# Altium integrated library Linear Technology Power Management PMIC Multifunction.IntLib: 360 symbols (part 24 of 42)
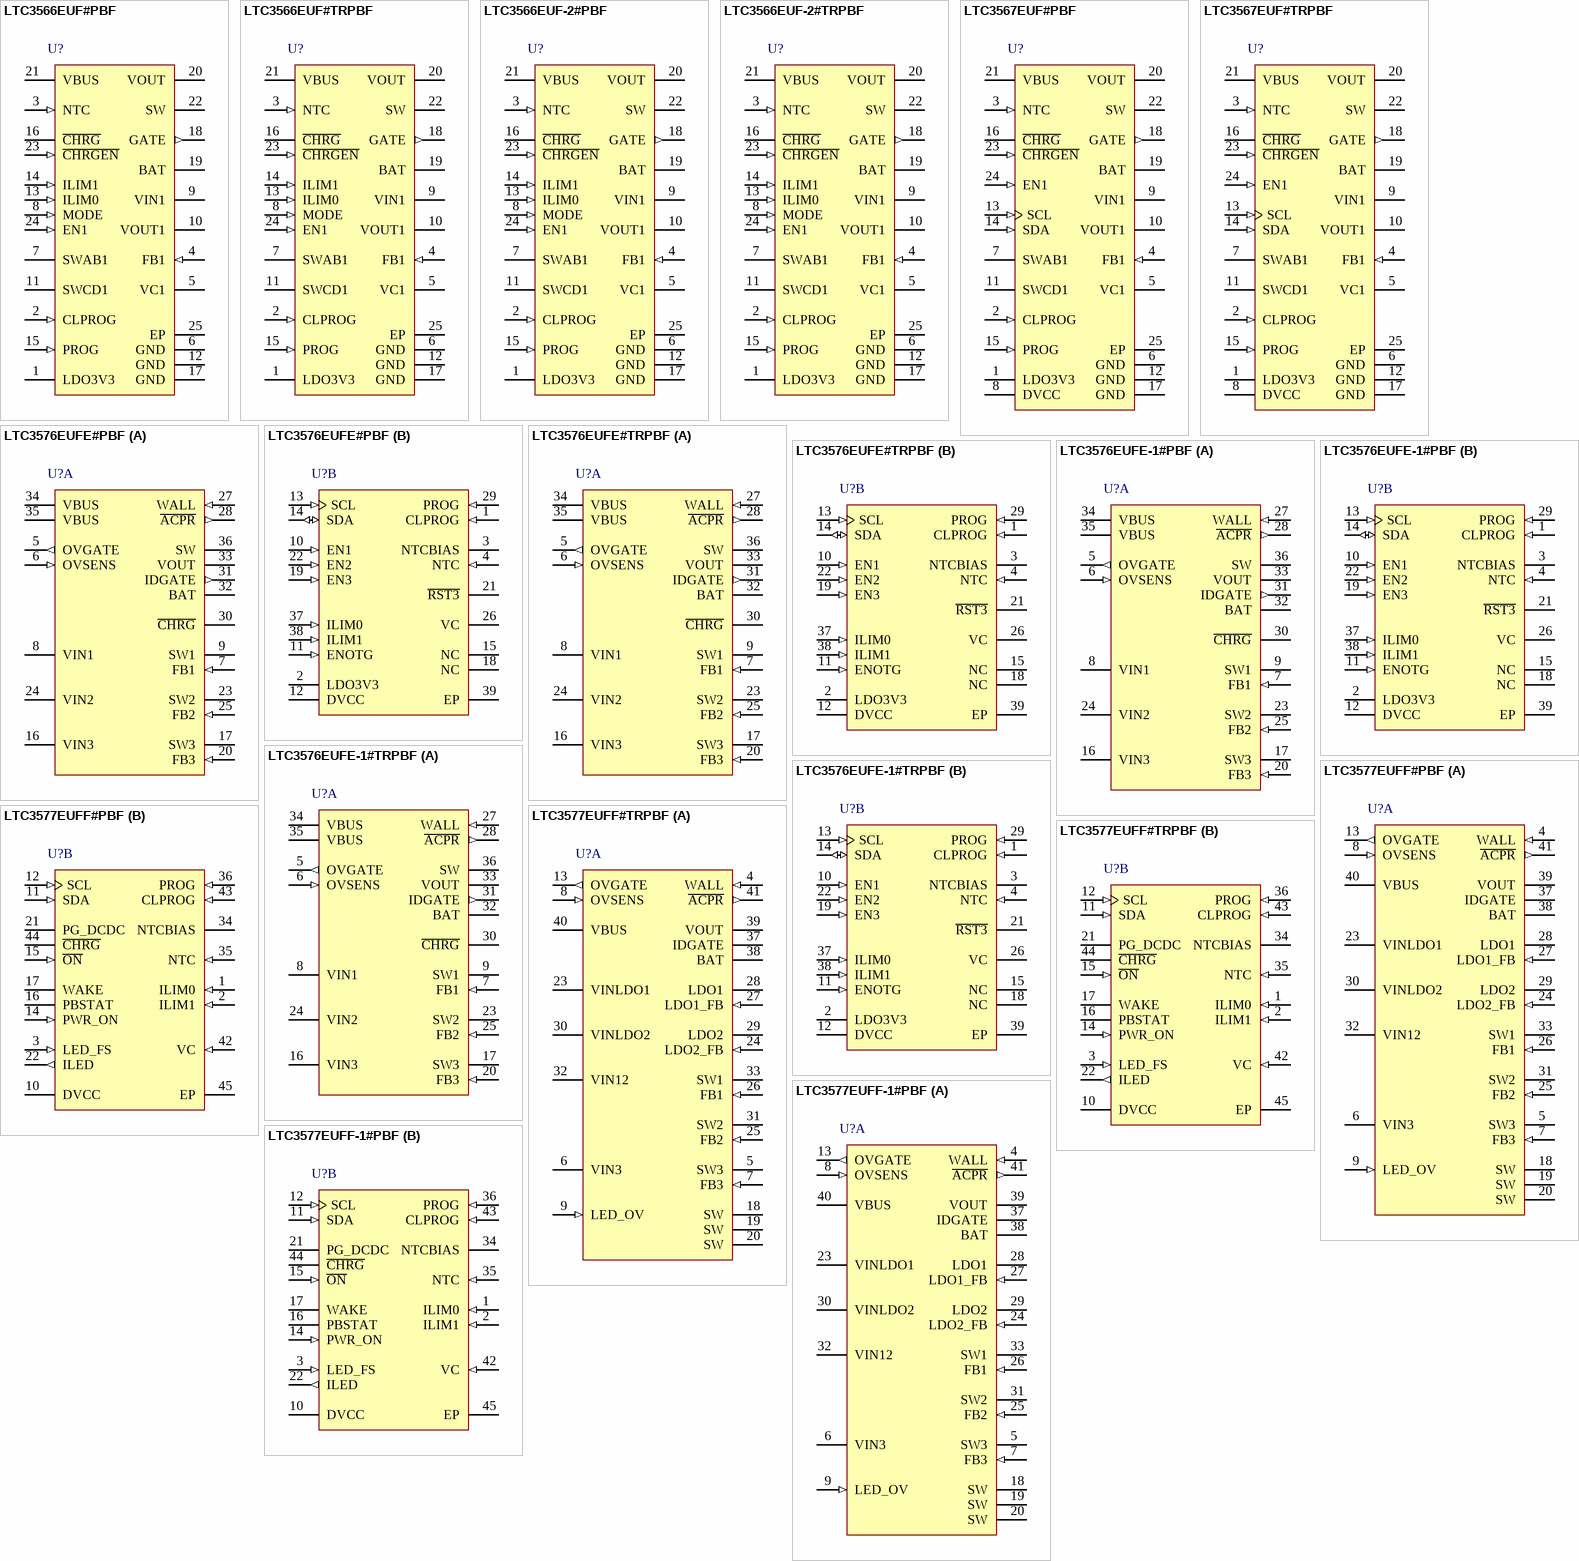
[diagram p41: symbols LTC3566EUF#PBF to LTC3577EUFF-1#PBF]

## LTC3566EUF#TRPBF
designator U?
High Efficiency USB Power Manager Plus 1 A Buck-Boost Converter, 4.35 to 5.5 V Vin, 24-pin QFN (UF-24), -40 to 85 degC, Pb-Free, Tape and Reel; Manufacturer: Linear Technology; PartNumber: LTC3566EUF#TRPBF; Number of Cells: 1; Vin Max(V): 5.5; Vin Min(V): 4.35; DatasheetVersion: Rev. B; PackageVersion: Rev. B, 02/2012; PackageReference: UF24; PackageDescription: 24-Pin Plastic QFN, Body 4 x 4 mm, Pitch 0.5 mm; Supplier 1: Digi-Key; Supplier Part Number 1: LTC3566EUF#TRPBF-ND; Number of Outputs: 1; Packing: Tape and Reel; RoHS: TRUE; Mounting Technology: Surface Mount; Code_JEDEC: MO-220; ComponentLink1Description: Manufacturer URL; ComponentLink1URL: http://www.linear.com/; ComponentLink2Description: Datasheet; ComponentLink2URL: http://cds.linear.com/docs/en/datasheet/3566fb.pdf; ComponentLink3Description: Package Specification; ComponentLink3URL: http://cds.linear.com/docs/en/packaging/%28UF24%29%20QFN%2005-08-1697%20Rev%20B.pdf
footprint LT-UF-24_N (QFN, 24-Leads, Body 4.1x4.1mm, Pitch 0.5mm, Thermal Pad 2.45x2.45mm, IPC Medium Density)
footprint LT-UF-24_L (QFN, 24-Leads, Body 4.1x4.1mm, Pitch 0.5mm, Thermal Pad 2.45x2.45mm, IPC High Density)
footprint LT-UF-24_M (QFN, 24-Leads, Body 4.1x4.1mm, Pitch 0.5mm, Thermal Pad 2.45x2.45mm, IPC Low Density)
pins: 1 LDO3V3 (power) "3.3V LDO Output Pin. This pin provides a regulated, always-on, 3.3V supply voltage. LDO3V3 gets its power from VOUT. It may be used for light loads such as a watchdog microprocessor or real time clock. A 1uF capacitor is (See Datasheet)", 2 CLPROG (in) "USB Current Limit Program and Monitor Pin. A resistor from CLPROG to ground determines the upper limit of the current drawn from the VBUS pin. A fraction of the VBUS current is sent to the CLPROG pin when the synchronous (See Datasheet)", 3 NTC (in) "Input to the Thermistor Monitoring Circuits. The NTC pin connects to a battery’s thermistor to determine if the battery is too hot or too cold to charge. If the battery’s temperature is out of range, charging is pau(See Datasheet)", 4 FB1 (in) "Feedback Input for the (Buck-Boost) Switching Regulator. When the regulator’s control loop is complete, this pin servos to a fixed voltage of 0.8V.", 5 VC1 "Output of the Error Amplifier and Voltage Compensation Node for the (Buck-Boost) Switching Regulator. External Type I or Type III compensation (to FB1) connects to this pin. See Applications Information section for selecting (See Datasheet)", 6 GND (power) "Power GND pins for the buck-boost.", 7 SWAB1 "Switch Node for the (Buck-Boost) Switching Regulator. Connected to internal power switches A and B. External inductor connects between this node and SWCD1.", 8 MODE (in) "Logic Input. Mode enables Burst Mode functionality for the buck-boost switching regulator when pin is set high. Has a 1.6uA internal pull-down current source.", 9 VIN1 (power) "Power Input for the (Buck-Boost) Switching Regulator. This pin will generally be connected to VOUT (Pin 20). A 1uF(min) MLCC capacitor is recommended on this pin.", 10 VOUT1 (power) "Regulated Output Voltage for the (Buck-Boost) Switching Regulator.", 11 SWCD1 "Switch Node for the (Buck-Boost) Switching Regulator. Connected to internal power switches C and D. External inductor connects between this node and SWAB1.", 12 GND (power) "Power GND pins for the buck-boost.", 13 ILIM0 (in) "Logic Input. Control pin for ILIM0 bit of the current limit of the PowerPath switching regulator. See Table 2. Active high. Has a 1.6uA internal pull-down current source.", 14 ILIM1 (in) "Logic Input. Control pin for ILIM1 bit of the current limit of the PowerPath switching regulator. See Table 2. Active high. Has a 1.6uA internal pull-down current source.", 15 PROG (in) "Charge Current Program and Charge Current Monitor Pin. Connecting a resistor from PROG to ground programs the charge current. If sufficient input power is available in constant-current mode, this pin servos to 1V. The (See Datasheet)", 16 ~{CHRG} (hiz) "Open-Drain Charge Status Output. The C\H\R\G\ pin indicates the status of the battery charger. Four possible states are represented by C\H\R\G\: charging, not charging, unresponsive battery and battery temperature out of (See Datasheet)", 17 GND (power) "GND pin for USB Power Manager.", 18 GATE (out) "Analog Output. This pin controls the gate of an optional external P-channel MOSFET transistor used to supplement the ideal diode between VOUT and BAT. The external ideal diode operates in parallel with the internal ideal (See Datasheet)", 19 BAT (power) "Single-Cell Li-Ion Battery Pin. Depending on available VBUS power, a Li-Ion battery on BAT will either deliver power to VOUT through the ideal diode or be charged from VOUT via the battery charger.", 20 VOUT (power) "Output Voltage of the Switching PowerPath Controller and Input Voltage of the Battery Charger. The majority of the portable product should be powered from VOUT. The LTC3566 family will partition the available power between (See Datasheet)", 21 VBUS (power) "Primary Input Power Pin. This pin delivers power to VOUT via the SW pin by drawing controlled current from a DC source such as a USB port or wall adapter.", 22 SW (power) "Power Transmission Pin for the USB PowerPath. The SW pin delivers power from VBUS to VOUT via the step-down switching regulator. A 3.3uH inductor should be connected from SW to VOUT.", 23 ~{CHRGEN} (in) "Logic Input. This logic input pin independently enables the battery charger. Active low. Has a 1.6uA internal pull-down current source.", 24 EN1 (in) "Logic Input. This logic input pin independently enables the buck-boost switching regulator. Active high. Has a 1.6uA internal pull-down current source.", 25 EP (power) "Ground. Buck-boost logic and USB Power Manager ground connections. The Exposed Pad should be connected to a continuous ground plane on the printed circuit board directly under the LTC3566."

## LTC3566EUF-2#PBF
designator U?
High Efficiency USB Power Manager Plus 1 A Buck-Boost Converter, 4.35 to 5.5 V Vin, 24-pin QFN (UF-24), -40 to 85 degC, Pb-Free; Manufacturer: Linear Technology; PartNumber: LTC3566EUF-2#PBF; Number of Cells: 1; Vin Max(V): 5.5; Vin Min(V): 4.35; DatasheetVersion: Rev. B; PackageVersion: Rev. B, 02/2012; PackageReference: UF24; PackageDescription: 24-Pin Plastic QFN, Body 4 x 4 mm, Pitch 0.5 mm; Supplier 1: Digi-Key; Supplier Part Number 1: LTC3566EUF-2#PBF-ND; Number of Outputs: 1; RoHS: TRUE; Mounting Technology: Surface Mount; Code_JEDEC: MO-220; ComponentLink1Description: Manufacturer URL; ComponentLink1URL: http://www.linear.com/; ComponentLink2Description: Datasheet; ComponentLink2URL: http://cds.linear.com/docs/en/datasheet/3566fb.pdf; ComponentLink3Description: Package Specification; ComponentLink3URL: http://cds.linear.com/docs/en/packaging/%28UF24%29%20QFN%2005-08-1697%20Rev%20B.pdf
footprint LT-UF-24_N (QFN, 24-Leads, Body 4.1x4.1mm, Pitch 0.5mm, Thermal Pad 2.45x2.45mm, IPC Medium Density)
footprint LT-UF-24_L (QFN, 24-Leads, Body 4.1x4.1mm, Pitch 0.5mm, Thermal Pad 2.45x2.45mm, IPC High Density)
footprint LT-UF-24_M (QFN, 24-Leads, Body 4.1x4.1mm, Pitch 0.5mm, Thermal Pad 2.45x2.45mm, IPC Low Density)
pins: 1 LDO3V3 (power) "3.3V LDO Output Pin. This pin provides a regulated, always-on, 3.3V supply voltage. LDO3V3 gets its power from VOUT. It may be used for light loads such as a watchdog microprocessor or real time clock. A 1uF capacitor is (See Datasheet)", 2 CLPROG (in) "USB Current Limit Program and Monitor Pin. A resistor from CLPROG to ground determines the upper limit of the current drawn from the VBUS pin. A fraction of the VBUS current is sent to the CLPROG pin when the synchronous (See Datasheet)", 3 NTC (in) "Input to the Thermistor Monitoring Circuits. The NTC pin connects to a battery’s thermistor to determine if the battery is too hot or too cold to charge. If the battery’s temperature is out of range, charging is pau(See Datasheet)", 4 FB1 (in) "Feedback Input for the (Buck-Boost) Switching Regulator. When the regulator’s control loop is complete, this pin servos to a fixed voltage of 0.8V.", 5 VC1 "Output of the Error Amplifier and Voltage Compensation Node for the (Buck-Boost) Switching Regulator. External Type I or Type III compensation (to FB1) connects to this pin. See Applications Information section for selecting (See Datasheet)", 6 GND (power) "Power GND pins for the buck-boost.", 7 SWAB1 "Switch Node for the (Buck-Boost) Switching Regulator. Connected to internal power switches A and B. External inductor connects between this node and SWCD1.", 8 MODE (in) "Logic Input. Mode enables Burst Mode functionality for the buck-boost switching regulator when pin is set high. Has a 1.6uA internal pull-down current source.", 9 VIN1 (power) "Power Input for the (Buck-Boost) Switching Regulator. This pin will generally be connected to VOUT (Pin 20). A 1uF(min) MLCC capacitor is recommended on this pin.", 10 VOUT1 (power) "Regulated Output Voltage for the (Buck-Boost) Switching Regulator.", 11 SWCD1 "Switch Node for the (Buck-Boost) Switching Regulator. Connected to internal power switches C and D. External inductor connects between this node and SWAB1.", 12 GND (power) "Power GND pins for the buck-boost.", 13 ILIM0 (in) "Logic Input. Control pin for ILIM0 bit of the current limit of the PowerPath switching regulator. See Table 2. Active high. Has a 1.6uA internal pull-down current source.", 14 ILIM1 (in) "Logic Input. Control pin for ILIM1 bit of the current limit of the PowerPath switching regulator. See Table 2. Active high. Has a 1.6uA internal pull-down current source.", 15 PROG (in) "Charge Current Program and Charge Current Monitor Pin. Connecting a resistor from PROG to ground programs the charge current. If sufficient input power is available in constant-current mode, this pin servos to 1V. The (See Datasheet)", 16 ~{CHRG} (hiz) "Open-Drain Charge Status Output. The C\H\R\G\ pin indicates the status of the battery charger. Four possible states are represented by C\H\R\G\: charging, not charging, unresponsive battery and battery temperature out of (See Datasheet)", 17 GND (power) "GND pin for USB Power Manager.", 18 GATE (out) "Analog Output. This pin controls the gate of an optional external P-channel MOSFET transistor used to supplement the ideal diode between VOUT and BAT. The external ideal diode operates in parallel with the internal ideal (See Datasheet)", 19 BAT (power) "Single-Cell Li-Ion Battery Pin. Depending on available VBUS power, a Li-Ion battery on BAT will either deliver power to VOUT through the ideal diode or be charged from VOUT via the battery charger.", 20 VOUT (power) "Output Voltage of the Switching PowerPath Controller and Input Voltage of the Battery Charger. The majority of the portable product should be powered from VOUT. The LTC3566 family will partition the available power between (See Datasheet)", 21 VBUS (power) "Primary Input Power Pin. This pin delivers power to VOUT via the SW pin by drawing controlled current from a DC source such as a USB port or wall adapter.", 22 SW (power) "Power Transmission Pin for the USB PowerPath. The SW pin delivers power from VBUS to VOUT via the step-down switching regulator. A 3.3uH inductor should be connected from SW to VOUT.", 23 ~{CHRGEN} (in) "Logic Input. This logic input pin independently enables the battery charger. Active low. Has a 1.6uA internal pull-down current source.", 24 EN1 (in) "Logic Input. This logic input pin independently enables the buck-boost switching regulator. Active high. Has a 1.6uA internal pull-down current source.", 25 EP (power) "Ground. Buck-boost logic and USB Power Manager ground connections. The Exposed Pad should be connected to a continuous ground plane on the printed circuit board directly under the LTC3566."

## LTC3566EUF-2#TRPBF
designator U?
High Efficiency USB Power Manager Plus 1 A Buck-Boost Converter, 4.35 to 5.5 V Vin, 24-pin QFN (UF-24), -40 to 85 degC, Pb-Free, Tape and Reel; Manufacturer: Linear Technology; PartNumber: LTC3566EUF-2#TRPBF; Number of Cells: 1; Vin Max(V): 5.5; Vin Min(V): 4.35; DatasheetVersion: Rev. B; PackageVersion: Rev. B, 02/2012; PackageReference: UF24; PackageDescription: 24-Pin Plastic QFN, Body 4 x 4 mm, Pitch 0.5 mm; Supplier 1: Digi-Key; Supplier Part Number 1: LTC3566EUF-2#TRPBF-ND; Number of Outputs: 1; Packing: Tape and Reel; RoHS: TRUE; Mounting Technology: Surface Mount; Code_JEDEC: MO-220; ComponentLink1Description: Manufacturer URL; ComponentLink1URL: http://www.linear.com/; ComponentLink2Description: Datasheet; ComponentLink2URL: http://cds.linear.com/docs/en/datasheet/3566fb.pdf; ComponentLink3Description: Package Specification; ComponentLink3URL: http://cds.linear.com/docs/en/packaging/%28UF24%29%20QFN%2005-08-1697%20Rev%20B.pdf
footprint LT-UF-24_N (QFN, 24-Leads, Body 4.1x4.1mm, Pitch 0.5mm, Thermal Pad 2.45x2.45mm, IPC Medium Density)
footprint LT-UF-24_L (QFN, 24-Leads, Body 4.1x4.1mm, Pitch 0.5mm, Thermal Pad 2.45x2.45mm, IPC High Density)
footprint LT-UF-24_M (QFN, 24-Leads, Body 4.1x4.1mm, Pitch 0.5mm, Thermal Pad 2.45x2.45mm, IPC Low Density)
pins: 1 LDO3V3 (power) "3.3V LDO Output Pin. This pin provides a regulated, always-on, 3.3V supply voltage. LDO3V3 gets its power from VOUT. It may be used for light loads such as a watchdog microprocessor or real time clock. A 1uF capacitor is (See Datasheet)", 2 CLPROG (in) "USB Current Limit Program and Monitor Pin. A resistor from CLPROG to ground determines the upper limit of the current drawn from the VBUS pin. A fraction of the VBUS current is sent to the CLPROG pin when the synchronous (See Datasheet)", 3 NTC (in) "Input to the Thermistor Monitoring Circuits. The NTC pin connects to a battery’s thermistor to determine if the battery is too hot or too cold to charge. If the battery’s temperature is out of range, charging is pau(See Datasheet)", 4 FB1 (in) "Feedback Input for the (Buck-Boost) Switching Regulator. When the regulator’s control loop is complete, this pin servos to a fixed voltage of 0.8V.", 5 VC1 "Output of the Error Amplifier and Voltage Compensation Node for the (Buck-Boost) Switching Regulator. External Type I or Type III compensation (to FB1) connects to this pin. See Applications Information section for selecting (See Datasheet)", 6 GND (power) "Power GND pins for the buck-boost.", 7 SWAB1 "Switch Node for the (Buck-Boost) Switching Regulator. Connected to internal power switches A and B. External inductor connects between this node and SWCD1.", 8 MODE (in) "Logic Input. Mode enables Burst Mode functionality for the buck-boost switching regulator when pin is set high. Has a 1.6uA internal pull-down current source.", 9 VIN1 (power) "Power Input for the (Buck-Boost) Switching Regulator. This pin will generally be connected to VOUT (Pin 20). A 1uF(min) MLCC capacitor is recommended on this pin.", 10 VOUT1 (power) "Regulated Output Voltage for the (Buck-Boost) Switching Regulator.", 11 SWCD1 "Switch Node for the (Buck-Boost) Switching Regulator. Connected to internal power switches C and D. External inductor connects between this node and SWAB1.", 12 GND (power) "Power GND pins for the buck-boost.", 13 ILIM0 (in) "Logic Input. Control pin for ILIM0 bit of the current limit of the PowerPath switching regulator. See Table 2. Active high. Has a 1.6uA internal pull-down current source.", 14 ILIM1 (in) "Logic Input. Control pin for ILIM1 bit of the current limit of the PowerPath switching regulator. See Table 2. Active high. Has a 1.6uA internal pull-down current source.", 15 PROG (in) "Charge Current Program and Charge Current Monitor Pin. Connecting a resistor from PROG to ground programs the charge current. If sufficient input power is available in constant-current mode, this pin servos to 1V. The (See Datasheet)", 16 ~{CHRG} (hiz) "Open-Drain Charge Status Output. The C\H\R\G\ pin indicates the status of the battery charger. Four possible states are represented by C\H\R\G\: charging, not charging, unresponsive battery and battery temperature out of (See Datasheet)", 17 GND (power) "GND pin for USB Power Manager.", 18 GATE (out) "Analog Output. This pin controls the gate of an optional external P-channel MOSFET transistor used to supplement the ideal diode between VOUT and BAT. The external ideal diode operates in parallel with the internal ideal (See Datasheet)", 19 BAT (power) "Single-Cell Li-Ion Battery Pin. Depending on available VBUS power, a Li-Ion battery on BAT will either deliver power to VOUT through the ideal diode or be charged from VOUT via the battery charger.", 20 VOUT (power) "Output Voltage of the Switching PowerPath Controller and Input Voltage of the Battery Charger. The majority of the portable product should be powered from VOUT. The LTC3566 family will partition the available power between (See Datasheet)", 21 VBUS (power) "Primary Input Power Pin. This pin delivers power to VOUT via the SW pin by drawing controlled current from a DC source such as a USB port or wall adapter.", 22 SW (power) "Power Transmission Pin for the USB PowerPath. The SW pin delivers power from VBUS to VOUT via the step-down switching regulator. A 3.3uH inductor should be connected from SW to VOUT.", 23 ~{CHRGEN} (in) "Logic Input. This logic input pin independently enables the battery charger. Active low. Has a 1.6uA internal pull-down current source.", 24 EN1 (in) "Logic Input. This logic input pin independently enables the buck-boost switching regulator. Active high. Has a 1.6uA internal pull-down current source.", 25 EP (power) "Ground. Buck-boost logic and USB Power Manager ground connections. The Exposed Pad should be connected to a continuous ground plane on the printed circuit board directly under the LTC3566."

## LTC3567EUF#PBF
designator U?
High Efficiency USB Power Manager Plus 1 A Buck-Boost Converter with I2C Control, 4.35 to 5.5 V Vin, 24-pin QFN (UF-24), -40 to 85 degC, Pb-Free; Manufacturer: Linear Technology; PartNumber: LTC3567EUF#PBF; Number of Cells: 1; Vin Max(V): 5.5; Vin Min(V): 4.35; PackageVersion: Rev. B, 02/2012; PackageReference: UF24; PackageDescription: 24-Pin Plastic QFN, Body 4 x 4 mm, Pitch 0.5 mm; Supplier 1: Digi-Key; Supplier Part Number 1: LTC3567EUF#PBF-ND; Number of Outputs: 1; RoHS: TRUE; Mounting Technology: Surface Mount; Code_JEDEC: MO-220; ComponentLink1Description: Manufacturer URL; ComponentLink1URL: http://www.linear.com/; ComponentLink2Description: Datasheet; ComponentLink2URL: http://cds.linear.com/docs/en/datasheet/3567f.pdf; ComponentLink3Description: Package Specification; ComponentLink3URL: http://cds.linear.com/docs/en/packaging/%28UF24%29%20QFN%2005-08-1697%20Rev%20B.pdf
footprint LT-UF-24_N (QFN, 24-Leads, Body 4.1x4.1mm, Pitch 0.5mm, Thermal Pad 2.45x2.45mm, IPC Medium Density)
footprint LT-UF-24_L (QFN, 24-Leads, Body 4.1x4.1mm, Pitch 0.5mm, Thermal Pad 2.45x2.45mm, IPC High Density)
footprint LT-UF-24_M (QFN, 24-Leads, Body 4.1x4.1mm, Pitch 0.5mm, Thermal Pad 2.45x2.45mm, IPC Low Density)
pins: 1 LDO3V3 (power) "3.3V LDO Output Pin. This pin provides a regulated always-on, 3.3V supply voltage. LDO3V3 gets its power from VOUT. It may be used for light loads such as a watchdog microprocessor or real time clock. A 1uF capacitor is (See Datasheet)", 2 CLPROG (in) "USB Current Limit Program and Monitor Pin. A resistor from CLPROG to ground determines the upper limit of the current drawn from the VBUS pin. A fraction of the VBUS current is sent to the CLPROG pin when the synchronous (See Datasheet)", 3 NTC (in) "Input to the Thermistor Monitoring Circuits. The NTC pin connects to a battery’s thermistor to determine if the battery is too hot or too cold to charge. If the battery’s temperature is out of range, charging is pau(See Datasheet)", 4 FB1 (in) "Feedback Input for the (Buck-Boost) Switching Regulator. When the regulator’s control loop is complete, this pin servos to 1 of 16 possible set-points based on the commanded value from the I2C serial port. See Table 4.", 5 VC1 "Output of the Error Amplifier and Voltage Compensation Node for the (Buck-Boost) Switching Regulator. External Type I or Type III compensation (to FB1) connects to this pin. See Applications Section for selecting buck-boost (See Datasheet)", 6 GND (power) "Power GND Pins for the buck-boost.", 7 SWAB1 "Switch Node for the (Buck-Boost) Switching Regulator. Connected to internal power switches A and B. External inductor connects between this node and SWCD1.", 8 DVCC (power) "Logic Supply for the I2C Serial Port", 9 VIN1 (power) "Power Input for the (Buck-Boost) Switching Regulator. This pin will generally be connected to VOUT (Pin 20). A 1uF (min) MLCC capacitor is recommended on this pin.", 10 VOUT1 (power) "Regulated Output Voltage for the (Buck- Boost) Switching Regulator.", 11 SWCD1 "Switch Node for the (Buck-Boost) Switching Regulator. Connected to internal power switches C and D. External inductor connects between this node and SWAB1", 12 GND (power) "GND pin for USB Power Manager", 13 SCL (in) "Clock Input Pin for the I2C Serial Port. The I2C logic levels are scaled with respect to DVCC.", 14 SDA (in) "Data Input Pin for the I2C Serial Port. The I2C logic levels are scaled with respect to DVCC", 15 PROG (in) "Charge Current Program and Charge Current Monitor Pin. Connecting a resistor from PROG to ground programs the charge current. If sufficient input power is available in constant-current mode, this pin servos to 1V. The (See Datasheet)", 16 ~{CHRG} (hiz) "Open-Drain Charge Status Output. The C\H\R\G\ pin indicates the status of the battery charger. Four possible states are represented by C\H\R\G\: charging, not charging, unresponsive battery and battery temperature out of (See Datasheet)", 17 GND (power) "GND pin for USB Power Manager", 18 GATE (out) "Analog Output. This pin controls the gate of an optional external P-channel MOSFET transistor used to supplement the ideal diode between VOUT and BAT. The external ideal diode operates in parallel with the internal ideal (See Datasheet)", 19 BAT (power) "Single Cell Li-Ion Battery Pin. Depending on available VBUS power, a Li-Ion battery on BAT will either deliver power to VOUT through the ideal diode or be charged from VOUT via the battery charger.", 20 VOUT (power) "Output Voltage of the Switching Power-Path Controller and Input Voltage of the Battery Charger. The majority of the portable product should be powered from VOUT. The LTC3567 will partition the available power between the (See Datasheet)", 21 VBUS (power) "Primary Input Power Pin. This pin delivers power to VOUT via the SW pin by drawing controlled current from a DC source such as a USB port or wall adapter", 22 SW (power) "Power Transmission Pin for the USB PowerPath. The SW pin delivers power from VBUS to VOUT via the step-down switching regulator. A 3.3uH inductor should be connected from SW to VOUT.", 23 ~{CHRGEN} (in) "Logic Input. This logic input pin independently enables the battery charger. Active low. Has a 1.6uA internal pull-down current source. This pin is logically ORed with its corresponding bit in the I2C serial port.", 24 EN1 (in) "Logic Input. This logic input pin independently enables the buck-boost switching regulator. Active high. Has a 1.6uA internal pull-down current source. This pin is logically ORed with its corresponding bit in the I2C serial (See Datasheet)", 25 EP (power) "Ground. Buck-Boost logic and USB power manager ground connections. The Exposed Pad should be connected to a continuous ground plane on the printed circuit board directly under the LTC3567"

## LTC3567EUF#TRPBF
designator U?
High Efficiency USB Power Manager Plus 1 A Buck-Boost Converter with I2C Control, 4.35 to 5.5 V Vin, 24-pin QFN (UF-24), -40 to 85 degC, Pb-Free, Tape and Reel; Manufacturer: Linear Technology; PartNumber: LTC3567EUF#TRPBF; Number of Cells: 1; Vin Max(V): 5.5; Vin Min(V): 4.35; PackageVersion: Rev. B, 02/2012; PackageReference: UF24; PackageDescription: 24-Pin Plastic QFN, Body 4 x 4 mm, Pitch 0.5 mm; Supplier 1: Digi-Key; Supplier Part Number 1: LTC3567EUF#TRPBF-ND; Number of Outputs: 1; Packing: Tape and Reel; RoHS: TRUE; Mounting Technology: Surface Mount; Code_JEDEC: MO-220; ComponentLink1Description: Manufacturer URL; ComponentLink1URL: http://www.linear.com/; ComponentLink2Description: Datasheet; ComponentLink2URL: http://cds.linear.com/docs/en/datasheet/3567f.pdf; ComponentLink3Description: Package Specification; ComponentLink3URL: http://cds.linear.com/docs/en/packaging/%28UF24%29%20QFN%2005-08-1697%20Rev%20B.pdf
footprint LT-UF-24_N (QFN, 24-Leads, Body 4.1x4.1mm, Pitch 0.5mm, Thermal Pad 2.45x2.45mm, IPC Medium Density)
footprint LT-UF-24_L (QFN, 24-Leads, Body 4.1x4.1mm, Pitch 0.5mm, Thermal Pad 2.45x2.45mm, IPC High Density)
footprint LT-UF-24_M (QFN, 24-Leads, Body 4.1x4.1mm, Pitch 0.5mm, Thermal Pad 2.45x2.45mm, IPC Low Density)
pins: 1 LDO3V3 (power) "3.3V LDO Output Pin. This pin provides a regulated always-on, 3.3V supply voltage. LDO3V3 gets its power from VOUT. It may be used for light loads such as a watchdog microprocessor or real time clock. A 1uF capacitor is (See Datasheet)", 2 CLPROG (in) "USB Current Limit Program and Monitor Pin. A resistor from CLPROG to ground determines the upper limit of the current drawn from the VBUS pin. A fraction of the VBUS current is sent to the CLPROG pin when the synchronous (See Datasheet)", 3 NTC (in) "Input to the Thermistor Monitoring Circuits. The NTC pin connects to a battery’s thermistor to determine if the battery is too hot or too cold to charge. If the battery’s temperature is out of range, charging is pau(See Datasheet)", 4 FB1 (in) "Feedback Input for the (Buck-Boost) Switching Regulator. When the regulator’s control loop is complete, this pin servos to 1 of 16 possible set-points based on the commanded value from the I2C serial port. See Table 4.", 5 VC1 "Output of the Error Amplifier and Voltage Compensation Node for the (Buck-Boost) Switching Regulator. External Type I or Type III compensation (to FB1) connects to this pin. See Applications Section for selecting buck-boost (See Datasheet)", 6 GND (power) "Power GND Pins for the buck-boost.", 7 SWAB1 "Switch Node for the (Buck-Boost) Switching Regulator. Connected to internal power switches A and B. External inductor connects between this node and SWCD1.", 8 DVCC (power) "Logic Supply for the I2C Serial Port", 9 VIN1 (power) "Power Input for the (Buck-Boost) Switching Regulator. This pin will generally be connected to VOUT (Pin 20). A 1uF (min) MLCC capacitor is recommended on this pin.", 10 VOUT1 (power) "Regulated Output Voltage for the (Buck- Boost) Switching Regulator.", 11 SWCD1 "Switch Node for the (Buck-Boost) Switching Regulator. Connected to internal power switches C and D. External inductor connects between this node and SWAB1", 12 GND (power) "GND pin for USB Power Manager", 13 SCL (in) "Clock Input Pin for the I2C Serial Port. The I2C logic levels are scaled with respect to DVCC.", 14 SDA (in) "Data Input Pin for the I2C Serial Port. The I2C logic levels are scaled with respect to DVCC", 15 PROG (in) "Charge Current Program and Charge Current Monitor Pin. Connecting a resistor from PROG to ground programs the charge current. If sufficient input power is available in constant-current mode, this pin servos to 1V. The (See Datasheet)", 16 ~{CHRG} (hiz) "Open-Drain Charge Status Output. The C\H\R\G\ pin indicates the status of the battery charger. Four possible states are represented by C\H\R\G\: charging, not charging, unresponsive battery and battery temperature out of (See Datasheet)", 17 GND (power) "GND pin for USB Power Manager", 18 GATE (out) "Analog Output. This pin controls the gate of an optional external P-channel MOSFET transistor used to supplement the ideal diode between VOUT and BAT. The external ideal diode operates in parallel with the internal ideal (See Datasheet)", 19 BAT (power) "Single Cell Li-Ion Battery Pin. Depending on available VBUS power, a Li-Ion battery on BAT will either deliver power to VOUT through the ideal diode or be charged from VOUT via the battery charger.", 20 VOUT (power) "Output Voltage of the Switching Power-Path Controller and Input Voltage of the Battery Charger. The majority of the portable product should be powered from VOUT. The LTC3567 will partition the available power between the (See Datasheet)", 21 VBUS (power) "Primary Input Power Pin. This pin delivers power to VOUT via the SW pin by drawing controlled current from a DC source such as a USB port or wall adapter", 22 SW (power) "Power Transmission Pin for the USB PowerPath. The SW pin delivers power from VBUS to VOUT via the step-down switching regulator. A 3.3uH inductor should be connected from SW to VOUT.", 23 ~{CHRGEN} (in) "Logic Input. This logic input pin independently enables the battery charger. Active low. Has a 1.6uA internal pull-down current source. This pin is logically ORed with its corresponding bit in the I2C serial port.", 24 EN1 (in) "Logic Input. This logic input pin independently enables the buck-boost switching regulator. Active high. Has a 1.6uA internal pull-down current source. This pin is logically ORed with its corresponding bit in the I2C serial (See Datasheet)", 25 EP (power) "Ground. Buck-Boost logic and USB power manager ground connections. The Exposed Pad should be connected to a continuous ground plane on the printed circuit board directly under the LTC3567"

## LTC3576EUFE#PBF
designator U?
Switching Power Manager with USB On-The-Go + Triple Step-Down DC/DC, 4.35 to 5.5 V Vin, 38-pin QFN (UFE-38), -40 to 85 degC, Pb-Free; Manufacturer: Linear Technology; PartNumber: LTC3576EUFE#PBF; Number of Cells: 1; Number of Outputs: 3; Vin Max(V): 5.5; Vin Min(V): 4.35; DatasheetVersion: Rev. B; PackageVersion: Rev. B, 03/2012; PackageReference: UFE-38; PackageDescription: 38-Pin Plastic QFN, Body 4 x 6 mm, Pitch 0.4 mm; Supplier 1: Digi-Key; Supplier Part Number 1: LTC3576EUFE#PBF-ND; Supplier 2: Farnell; Supplier Part Number 2: 1673550; Supplier 3: Newark; Supplier Part Number 3: 12P6566; RoHS: TRUE; Mounting Technology: Surface Mount; ComponentLink1Description: Manufacturer URL; ComponentLink1URL: http://www.linear.com/; ComponentLink2Description: Datasheet; ComponentLink2URL: http://cds.linear.com/docs/en/datasheet/3576fb.pdf; ComponentLink3Description: Package Specification; ComponentLink3URL: http://cds.linear.com/docs/en/datasheet/358623f.pdf
footprint LT-UFE-38_N (QFN, 38-Leads, Body 6.1x4.1mm, Pitch 0.4mm, Thermal Pad 2.65x4.65mm, IPC Medium Density)
footprint LT-UFE-38_L (QFN, 38-Leads, Body 6.1x4.1mm, Pitch 0.4mm, Thermal Pad 2.65x4.65mm, IPC High Density)
footprint LT-UFE-38_M (QFN, 38-Leads, Body 6.1x4.1mm, Pitch 0.4mm, Thermal Pad 2.65x4.65mm, IPC Low Density)
part A pins: 5 OVGATE (out) "Overvoltage Protection Gate Output. Connect OVGATE to the gate pin of an external N-channel MOS pass transistor. The source of the transistor should be connected to VBUS and the drain should be connected to the product’(See Datasheet)", 6 OVSENS (in) "Overvoltage Protection Sense Input. OVSENS should be connected through a 6.2k resistor to the input power connector and the drain of an external N-channel MOS pass transistor. When the voltage on this pin exceeds VOVCUTOFF, (See Datasheet)", 7 FB1 (in) "Feedback Input for Switching Regulator 1. When regulator 1’s control loop is complete, this pin servos to 1 of 16 possible set points based on the commanded value from the I2C serial port.", 8 VIN1 (power) "Power Input for Switching Regulator 1. This pin will generally be connected to VOUT. A 1uF MLCC capacitor is recommended on this pin.", 9 SW1 "Power Transmission Pin for Switching Regulator 1.", 16 VIN3 (power) "Power Input for Switching Regulator 3. This pin will generally be connected to VOUT. A 1uF MLCC capacitor is recommended on this pin.", 17 SW3 "Power Transmission Pin for Switching Regulator 3.", 20 FB3 (in) "Feedback Input for Switching Regulator 3. When regulator 3’s control loop is complete, this pin servos to 1 of 16 possible set points based on the commanded value from the I2C serial port.", 23 SW2 "Power Transmission Pin for Switching Regulator 2.", 24 VIN2 (power) "Power Input for Switching Regulator 2. This pin will generally be connected to VOUT. A 1uF MLCC capacitor is recommended on this pin.", 25 FB2 (in) "Feedback Input for Switching Regulator 2. When regulator 2’s control loop is complete, this pin servos to 1 of 16 possible set points based on the commanded value from the I2C serial port.", 27 WALL (in) "External Power Source Sense Input. WALL should be connected to the output of the external high voltage switching regulator and to the drain of an external P-channel MOSFET if used. It is used to determine when power is (See Datasheet)", 28 ~{ACPR} (out) "External Power Source Present Output (Active Low). A\C\P\R\ indicates that the output of the external high voltage step-down switching regulator is suitable for use by the LTC3576/LTC3576-1. It should be connected to the (See Datasheet)", 30 ~{CHRG} (hiz) "Open-Drain Charge Status Output. The C\H\R\G\ pin indicates the status of the battery charger. Four possible charger states are represented by C\H\R\G\: charging, not charging, unresponsive battery and battery temperature (See Datasheet)", 31 IDGATE (out) "Ideal Diode Amplifier Output. This pin controls the gate of an optional external P-channel MOSFET used as an ideal diode between VOUT and BAT. The external ideal diode operates in parallel with the internal ideal diode. The (See Datasheet)", 32 BAT (power) "Single Cell Li-Ion Battery Pin. Depending on available VBUS power, a Li-Ion battery on BAT will either deliver power to VOUT through the ideal diode or be charged from VOUT via the battery charger.", 33 VOUT (power) "Output Voltage of the Bidirectional PowerPath Switching Regulator in step-down mode and Input Voltage of the Battery Charger. The majority of the portable product should be powered from VOUT. The LTC3576/LTC3576-1 will (See Datasheet)", 34 VBUS (power) "Power Pins. These pins deliver power to VOUT via the SW pin by drawing controlled current from a DC source such as a USB port or DC output wall adapter. In on-the-go mode these pins provide power to external loads. Tie the (See Datasheet)", 35 VBUS (power) "Power Pins. These pins deliver power to VOUT via the SW pin by drawing controlled current from a DC source such as a USB port or DC output wall adapter. In on-the-go mode these pins provide power to external loads. Tie the (See Datasheet)", 36 SW (power) "The SW pin transfers power between VBUS and VOUT via the bidirectional switching regulator. See the Applications Information section for a discussion of inductance value and current rating."
part B pins: 1 CLPROG (in) "USB Current Limit Program and Monitor Pin. A 1% resistor from CLPROG to ground determines the upper limit of the current drawn or sourced from the VBUS pins. A precise fraction, hCLPROG, of the VBUS current is sent to the (See Datasheet)", 2 LDO3V3 (power) "3.3V LDO Output Pin. This pin provides a regulated always-on 3.3V supply voltage. LDO3V3 gets its power from VOUT. It may be used for light loads such as a watchdog microprocessor or real time clock. A 1uF capacitor is (See Datasheet)", 3 NTCBIAS "NTC Thermistor Bias Output. If NTC operation is desired, connect a bias resistor between NTCBIAS and NTC, and an NTC thermistor between NTC and GND. To disable NTC operation, connect NTC to GND and leave NTCBIAS open.", 4 NTC (in) "Input to the Thermistor Monitoring Circuits. The NTC pin connects to a negative temperature coeffi cient thermistor, which is typically co-packaged with the battery, to determine if the battery is too hot or too cold to (See Datasheet)", 10 EN1 (in) "Logic Input. This logic input pin independently enables switching regulator 1. Active high. This pin is logically ORed with its corresponding bit in the I2C serial port. See Table 3. Has a 2uA internal pull-down current (See Datasheet)", 11 ENOTG (in) "Logic Input. This logic input pin independently enables the bidirectional switching regulator to step up the voltage on VOUT and provide a 5V output on VBUS for USB on-the-go applications. Active high. This pin is logically (See Datasheet)", 12 DVCC (power) "Logic Supply for the I2C Serial Port. If the serial port is not needed, it can be disabled by grounding DVCC. When DVCC is grounded, the I2C bits are set to their default values.", 13 SCL (in) "Clock Input Pin for the I2C Serial Port. The I2C logic levels are scaled with respect to DVCC. If DVCC is grounded, the SCL pin is equivalent to the C2, C4 and C6 bits in the I2C serial port. SCL in conjunction with SDA (See Datasheet)", 14 SDA (io) "Data Input Pin for the I2C Serial Port. The I2C logic levels are scaled with respect to DVCC. If DVCC is grounded, the SDA pin is equivalent to the C3, C5 and C7 bits in the I2C serial port. SDA in conjunction with SCL (See Datasheet)", 15 NC "Unconnected Pin. This pin is not connected internally to the part. It is permissible to tie this pin to VIN3 in order to make the VIN3 PCB trace wider.", 18 NC "Unconnected Pin. This pin is not connected internally to the part. It is permissible to tie this pin to SW3 in order to make the SW3 PCB trace wider.", 19 EN3 (in) "Logic Input. This logic input pin independently enables switching regulator 3. Active high. This pin is logically ORed with its corresponding bit in the I2C serial port. See Table 3. Has a 2uA internal pull-down current (See Datasheet)", 21 ~{RST3} (hiz) "Logic Output. This in an open-drain output which indicates that switching regulator 3 has settled to its fi nal value. It can be used as a power-on reset for the primary microprocessor or to enable the other switching (See Datasheet)", 22 EN2 (in) "Logic Input. This logic input pin independently enables switching regulator 2. Active high. This pin is logically ORed with its corresponding bit in the I2C serial port. See Table 3. Has a 2uA internal pull-down current (See Datasheet)", 26 VC "Bat-Track External Switching Regulator Control Output. This pin drives the VC pin of an external Linear Technology step-down switching regulator. An external P-channel MOSFET is sometimes required to provide power to VOUT (See Datasheet)", 29 PROG (in) "Charge Current Program and Charge Current Monitor Pin. Connecting a 1% resistor from PROG to ground programs the charge current. If suffi cient input power is available in constant-current mode, this pin servos to 1V.", 37 ILIM0 (in) "ILIM0 and ILIM1 control the current limit of the PowerPath switching regulator. See Table 1. Both the ILIM0 and ILIM1 pins are logically ORed with their corresponding bits in the I2C serial port. See Tables 3 and 6. Each has (See Datasheet)", 38 ILIM1 (in) "ILIM0 and ILIM1 control the current limit of the PowerPath switching regulator. See Table 1. Both the ILIM0 and ILIM1 pins are logically ORed with their corresponding bits in the I2C serial port. See Tables 3 and 6. Each has (See Datasheet)", 39 EP (power) "Ground. The Exposed Pad should be connected to a continuous ground plane on the second layer of the printed circuit board by several vias directly under the LTC3576/LTC3576-1."

## LTC3576EUFE#TRPBF
designator U?
Switching Power Manager with USB On-The-Go + Triple Step-Down DC/DC, 4.35 to 5.5 V Vin, 38-pin QFN (UFE-38), -40 to 85 degC, Pb-Free, Tape and Reel; Manufacturer: Linear Technology; PartNumber: LTC3576EUFE#TRPBF; Number of Cells: 1; Number of Outputs: 3; Vin Max(V): 5.5; Vin Min(V): 4.35; DatasheetVersion: Rev. B; PackageVersion: Rev. B, 03/2012; PackageReference: UFE-38; PackageDescription: 38-Pin Plastic QFN, Body 4 x 6 mm, Pitch 0.4 mm; Supplier 1: Digi-Key; Supplier Part Number 1: LTC3576EUFE#TRPBF-ND; Packing: Tape and Reel; RoHS: TRUE; Mounting Technology: Surface Mount; ComponentLink1Description: Manufacturer URL; ComponentLink1URL: http://www.linear.com/; ComponentLink2Description: Datasheet; ComponentLink2URL: http://cds.linear.com/docs/en/datasheet/3576fb.pdf; ComponentLink3Description: Package Specification; ComponentLink3URL: http://cds.linear.com/docs/en/datasheet/358623f.pdf
footprint LT-UFE-38_N (QFN, 38-Leads, Body 6.1x4.1mm, Pitch 0.4mm, Thermal Pad 2.65x4.65mm, IPC Medium Density)
footprint LT-UFE-38_L (QFN, 38-Leads, Body 6.1x4.1mm, Pitch 0.4mm, Thermal Pad 2.65x4.65mm, IPC High Density)
footprint LT-UFE-38_M (QFN, 38-Leads, Body 6.1x4.1mm, Pitch 0.4mm, Thermal Pad 2.65x4.65mm, IPC Low Density)
part A pins: 5 OVGATE (out) "Overvoltage Protection Gate Output. Connect OVGATE to the gate pin of an external N-channel MOS pass transistor. The source of the transistor should be connected to VBUS and the drain should be connected to the product’(See Datasheet)", 6 OVSENS (in) "Overvoltage Protection Sense Input. OVSENS should be connected through a 6.2k resistor to the input power connector and the drain of an external N-channel MOS pass transistor. When the voltage on this pin exceeds VOVCUTOFF, (See Datasheet)", 7 FB1 (in) "Feedback Input for Switching Regulator 1. When regulator 1’s control loop is complete, this pin servos to 1 of 16 possible set points based on the commanded value from the I2C serial port.", 8 VIN1 (power) "Power Input for Switching Regulator 1. This pin will generally be connected to VOUT. A 1uF MLCC capacitor is recommended on this pin.", 9 SW1 "Power Transmission Pin for Switching Regulator 1.", 16 VIN3 (power) "Power Input for Switching Regulator 3. This pin will generally be connected to VOUT. A 1uF MLCC capacitor is recommended on this pin.", 17 SW3 "Power Transmission Pin for Switching Regulator 3.", 20 FB3 (in) "Feedback Input for Switching Regulator 3. When regulator 3’s control loop is complete, this pin servos to 1 of 16 possible set points based on the commanded value from the I2C serial port.", 23 SW2 "Power Transmission Pin for Switching Regulator 2.", 24 VIN2 (power) "Power Input for Switching Regulator 2. This pin will generally be connected to VOUT. A 1uF MLCC capacitor is recommended on this pin.", 25 FB2 (in) "Feedback Input for Switching Regulator 2. When regulator 2’s control loop is complete, this pin servos to 1 of 16 possible set points based on the commanded value from the I2C serial port.", 27 WALL (in) "External Power Source Sense Input. WALL should be connected to the output of the external high voltage switching regulator and to the drain of an external P-channel MOSFET if used. It is used to determine when power is (See Datasheet)", 28 ~{ACPR} (out) "External Power Source Present Output (Active Low). A\C\P\R\ indicates that the output of the external high voltage step-down switching regulator is suitable for use by the LTC3576/LTC3576-1. It should be connected to the (See Datasheet)", 30 ~{CHRG} (hiz) "Open-Drain Charge Status Output. The C\H\R\G\ pin indicates the status of the battery charger. Four possible charger states are represented by C\H\R\G\: charging, not charging, unresponsive battery and battery temperature (See Datasheet)", 31 IDGATE (out) "Ideal Diode Amplifier Output. This pin controls the gate of an optional external P-channel MOSFET used as an ideal diode between VOUT and BAT. The external ideal diode operates in parallel with the internal ideal diode. The (See Datasheet)", 32 BAT (power) "Single Cell Li-Ion Battery Pin. Depending on available VBUS power, a Li-Ion battery on BAT will either deliver power to VOUT through the ideal diode or be charged from VOUT via the battery charger.", 33 VOUT (power) "Output Voltage of the Bidirectional PowerPath Switching Regulator in step-down mode and Input Voltage of the Battery Charger. The majority of the portable product should be powered from VOUT. The LTC3576/LTC3576-1 will (See Datasheet)", 34 VBUS (power) "Power Pins. These pins deliver power to VOUT via the SW pin by drawing controlled current from a DC source such as a USB port or DC output wall adapter. In on-the-go mode these pins provide power to external loads. Tie the (See Datasheet)", 35 VBUS (power) "Power Pins. These pins deliver power to VOUT via the SW pin by drawing controlled current from a DC source such as a USB port or DC output wall adapter. In on-the-go mode these pins provide power to external loads. Tie the (See Datasheet)", 36 SW (power) "The SW pin transfers power between VBUS and VOUT via the bidirectional switching regulator. See the Applications Information section for a discussion of inductance value and current rating."
part B pins: 1 CLPROG (in) "USB Current Limit Program and Monitor Pin. A 1% resistor from CLPROG to ground determines the upper limit of the current drawn or sourced from the VBUS pins. A precise fraction, hCLPROG, of the VBUS current is sent to the (See Datasheet)", 2 LDO3V3 (power) "3.3V LDO Output Pin. This pin provides a regulated always-on 3.3V supply voltage. LDO3V3 gets its power from VOUT. It may be used for light loads such as a watchdog microprocessor or real time clock. A 1uF capacitor is (See Datasheet)", 3 NTCBIAS "NTC Thermistor Bias Output. If NTC operation is desired, connect a bias resistor between NTCBIAS and NTC, and an NTC thermistor between NTC and GND. To disable NTC operation, connect NTC to GND and leave NTCBIAS open.", 4 NTC (in) "Input to the Thermistor Monitoring Circuits. The NTC pin connects to a negative temperature coeffi cient thermistor, which is typically co-packaged with the battery, to determine if the battery is too hot or too cold to (See Datasheet)", 10 EN1 (in) "Logic Input. This logic input pin independently enables switching regulator 1. Active high. This pin is logically ORed with its corresponding bit in the I2C serial port. See Table 3. Has a 2uA internal pull-down current (See Datasheet)", 11 ENOTG (in) "Logic Input. This logic input pin independently enables the bidirectional switching regulator to step up the voltage on VOUT and provide a 5V output on VBUS for USB on-the-go applications. Active high. This pin is logically (See Datasheet)", 12 DVCC (power) "Logic Supply for the I2C Serial Port. If the serial port is not needed, it can be disabled by grounding DVCC. When DVCC is grounded, the I2C bits are set to their default values.", 13 SCL (in) "Clock Input Pin for the I2C Serial Port. The I2C logic levels are scaled with respect to DVCC. If DVCC is grounded, the SCL pin is equivalent to the C2, C4 and C6 bits in the I2C serial port. SCL in conjunction with SDA (See Datasheet)", 14 SDA (io) "Data Input Pin for the I2C Serial Port. The I2C logic levels are scaled with respect to DVCC. If DVCC is grounded, the SDA pin is equivalent to the C3, C5 and C7 bits in the I2C serial port. SDA in conjunction with SCL (See Datasheet)", 15 NC "Unconnected Pin. This pin is not connected internally to the part. It is permissible to tie this pin to VIN3 in order to make the VIN3 PCB trace wider.", 18 NC "Unconnected Pin. This pin is not connected internally to the part. It is permissible to tie this pin to SW3 in order to make the SW3 PCB trace wider.", 19 EN3 (in) "Logic Input. This logic input pin independently enables switching regulator 3. Active high. This pin is logically ORed with its corresponding bit in the I2C serial port. See Table 3. Has a 2uA internal pull-down current (See Datasheet)", 21 ~{RST3} (hiz) "Logic Output. This in an open-drain output which indicates that switching regulator 3 has settled to its fi nal value. It can be used as a power-on reset for the primary microprocessor or to enable the other switching (See Datasheet)", 22 EN2 (in) "Logic Input. This logic input pin independently enables switching regulator 2. Active high. This pin is logically ORed with its corresponding bit in the I2C serial port. See Table 3. Has a 2uA internal pull-down current (See Datasheet)", 26 VC "Bat-Track External Switching Regulator Control Output. This pin drives the VC pin of an external Linear Technology step-down switching regulator. An external P-channel MOSFET is sometimes required to provide power to VOUT (See Datasheet)", 29 PROG (in) "Charge Current Program and Charge Current Monitor Pin. Connecting a 1% resistor from PROG to ground programs the charge current. If suffi cient input power is available in constant-current mode, this pin servos to 1V.", 37 ILIM0 (in) "ILIM0 and ILIM1 control the current limit of the PowerPath switching regulator. See Table 1. Both the ILIM0 and ILIM1 pins are logically ORed with their corresponding bits in the I2C serial port. See Tables 3 and 6. Each has (See Datasheet)", 38 ILIM1 (in) "ILIM0 and ILIM1 control the current limit of the PowerPath switching regulator. See Table 1. Both the ILIM0 and ILIM1 pins are logically ORed with their corresponding bits in the I2C serial port. See Tables 3 and 6. Each has (See Datasheet)", 39 EP (power) "Ground. The Exposed Pad should be connected to a continuous ground plane on the second layer of the printed circuit board by several vias directly under the LTC3576/LTC3576-1."